# EAGLE library part MIRFV2 (library JCM)
SparkFun MiRFv2 0.1" spacing, 8 pins
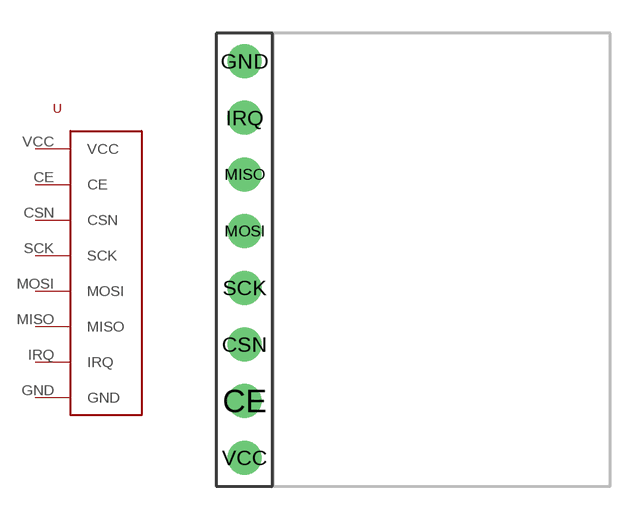
[diagram p0: symbol with the pads of MIRFV2; footprint MIRFV2]

Designator prefix -

## MIRFV2  [MIRFV2]
CE  CE
CSN  CSN
GND  GND
IRQ  IRQ
MISO  MISO
MOSI  MOSI
SCK  SCK
VCC  VCC

## Footprint MIRFV2 (pad centres in mm)
SparkFun MiRFv2
drill 1.016: CE -7.62,-6.35; CSN -7.62,-3.81; GND -7.62,8.89; IRQ -7.62,6.35; MISO -7.62,3.81; MOSI -7.62,1.27; SCK -7.62,-1.27; VCC -7.62,-8.89